# EAGLE library part NMOS_DUAL_TT8K1 (library MarkIIEaglelbr)
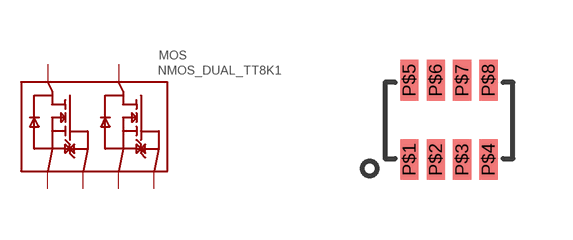
[diagram p2: symbol with the pads of TSST8; footprint TSST8]

Designator prefix MOS

## NMOS_DUAL_TT8K1  [TSST8]
P$1  S1
P$2  G1
P$3  S2
P$4  G2
P$5  D2
P$6  D2
P$7  D1
P$8  D1

## Footprint TSST8 (pad centres in mm)
smd 0.457 x 1.016: P$1 -0.66,-0.914; P$2 0,-0.914; P$3 0.66,-0.914; P$4 1.321,-0.914; P$5 -0.66,1.067; P$6 0,1.067; P$7 0.66,1.067; P$8 1.321,1.067